# Altium footprint library _ImegurasLib.PcbLib: 1 footprints
Each footprint in its own frame and in the unit in brackets; x right, y up, seen from the top. Pads: shape width x height; smd on the part's side, far side on the other; paste and mask are expansions set on the pad; w line width, h text height; cw(c..) or ccw(c..) is an arc to the next point about the centre after c.
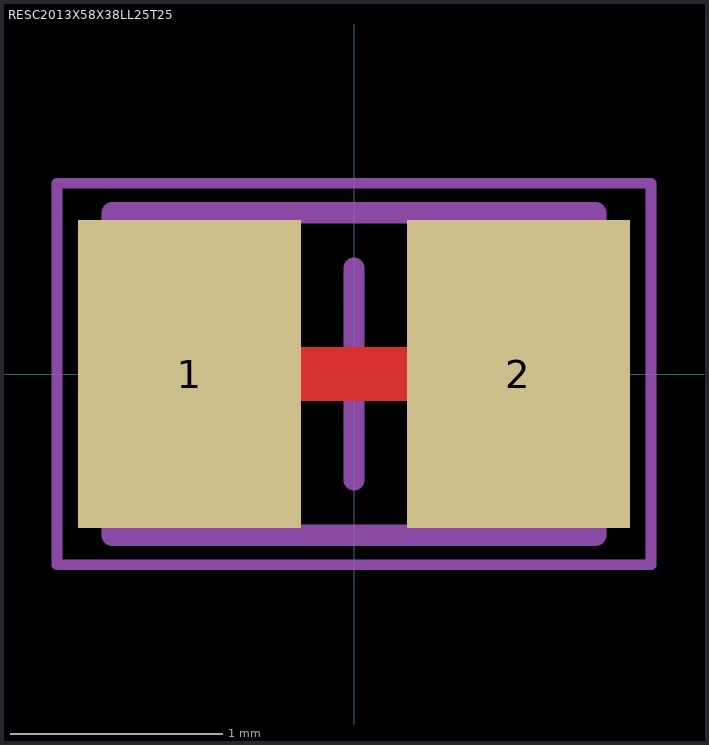
[diagram p0: the footprint, top view; thin cyan lines are the x and y axes]

## RESC2013X58X38LL25T25 [mm] "Chip Resistor, 2-Leads, Body 2.03x1.27mm, IPC High Density"
height 0.59
pads (2):
  rect 1.05x1.45 smd: 1(-0.775,0) 2(0.775,0)
Top Layer:
  lines w0.254: -0.775,0 0.775,0
Mechanical 13:
  lines w0.1: -1.14,-0.76 -1.14,0.76 1.14,0.76 1.14,-0.76 -1.14,-0.76
Mechanical 15:
  lines w0.05: -1.4,-0.9 -1.4,0.9 1.4,0.9 1.4,-0.9 -1.4,-0.9
  lines w0.1: -0.5,0 0.5,0 ; 0,-0.5 0,0.5
3D body: height 0.59, standoff 0, extent -0.76,-0.76 0.76,0.76
3D body: height 0.59, standoff 0, extent -1.14,-0.76 -0.76,0.76
3D body: height 0.59, standoff 0, extent 0.76,-0.76 1.14,0.76